# Altium schematic symbol library GenericPinHeader.SchLib: 39 symbols
Pins are listed as number, name and electrical type; pins without a type are passive.

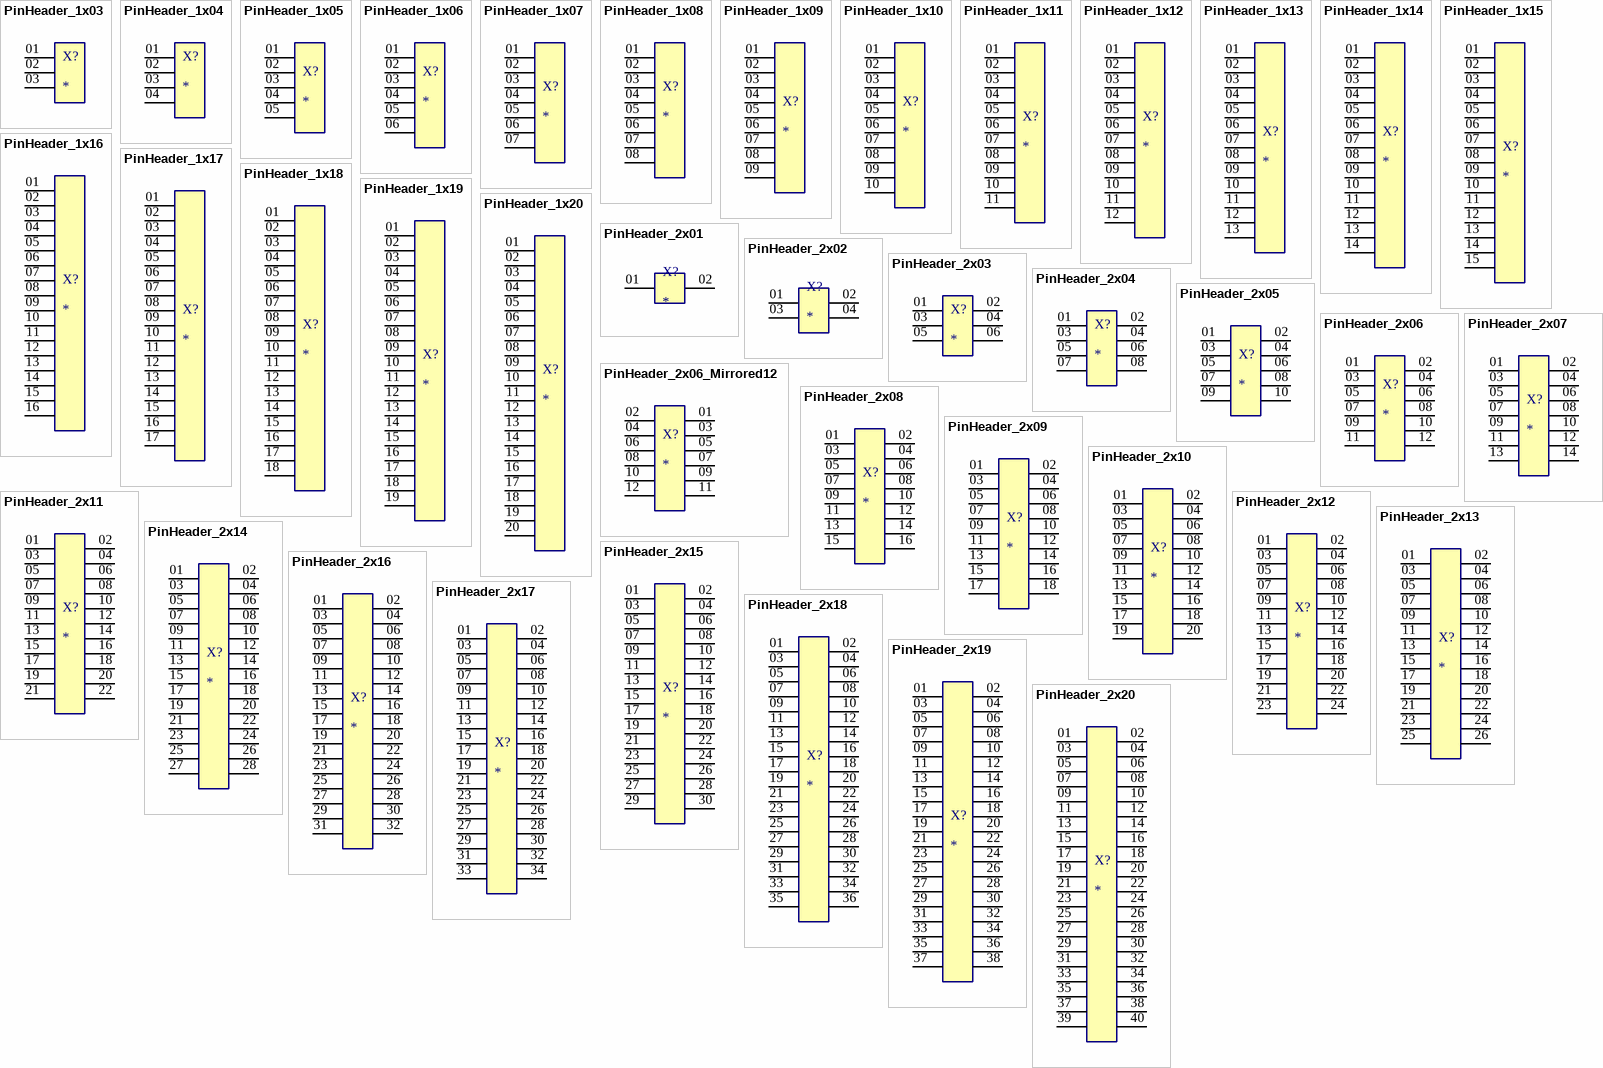
[diagram p0: symbols PinHeader_1x03 to PinHeader_2x20]

## PinHeader_1x03
designator X?
Generic Single-row Pin Header
pins: 01, 02, 03

## PinHeader_1x04
designator X?
Generic Single-row Pin Header
pins: 01, 02, 03, 04

## PinHeader_1x05
designator X?
Generic Single-row Pin Header
pins: 01, 02, 03, 04, 05

## PinHeader_1x06
designator X?
Generic Single-row Pin Header
pins: 01, 02, 03, 04, 05, 06

## PinHeader_1x07
designator X?
Generic Single-row Pin Header
pins: 01, 02, 03, 04, 05, 06, 07

## PinHeader_1x08
designator X?
Generic Single-row Pin Header
pins: 01, 02, 03, 04, 05, 06, 07, 08

## PinHeader_1x09
designator X?
Generic Single-row Pin Header
pins: 01, 02, 03, 04, 05, 06, 07, 08, 09

## PinHeader_1x10
designator X?
Generic Single-row Pin Header
pins: 01, 02, 03, 04, 05, 06, 07, 08, 09, 10

## PinHeader_1x11
designator X?
Generic Single-row Pin Header
pins: 01, 02, 03, 04, 05, 06, 07, 08, 09, 10, 11

## PinHeader_1x12
designator X?
Generic Single-row Pin Header
pins: 01, 02, 03, 04, 05, 06, 07, 08, 09, 10, 11, 12

## PinHeader_1x13
designator X?
Generic Single-row Pin Header
pins: 01, 02, 03, 04, 05, 06, 07, 08, 09, 10, 11, 12, 13

## PinHeader_1x14
designator X?
Generic Single-row Pin Header
pins: 01, 02, 03, 04, 05, 06, 07, 08, 09, 10, 11, 12, 13, 14

## PinHeader_1x15
designator X?
Generic Single-row Pin Header
pins: 01, 02, 03, 04, 05, 06, 07, 08, 09, 10, 11, 12, 13, 14, 15

## PinHeader_1x16
designator X?
Generic Single-row Pin Header
pins: 01, 02, 03, 04, 05, 06, 07, 08, 09, 10, 11, 12, 13, 14, 15, 16

## PinHeader_1x17
designator X?
Generic Single-row Pin Header
pins: 01, 02, 03, 04, 05, 06, 07, 08, 09, 10, 11, 12, 13, 14, 15, 16, 17

## PinHeader_1x18
designator X?
Generic Single-row Pin Header
pins: 01, 02, 03, 04, 05, 06, 07, 08, 09, 10, 11, 12, 13, 14, 15, 16, 17, 18

## PinHeader_1x19
designator X?
Generic Single-row Pin Header
pins: 01, 02, 03, 04, 05, 06, 07, 08, 09, 10, 11, 12, 13, 14, 15, 16, 17, 18, 19

## PinHeader_1x20
designator X?
Generic Single-row Pin Header
pins: 01, 02, 03, 04, 05, 06, 07, 08, 09, 10, 11, 12, 13, 14, 15, 16, 17, 18, 19, 20

## PinHeader_2x01
designator X?
Generic Double-row Pin Header
pins: 01, 02

## PinHeader_2x02
designator X?
Generic Double-row Pin Header
pins: 01, 02, 03, 04

## PinHeader_2x03
designator X?
Generic Double-row Pin Header
pins: 01, 02, 03, 04, 05, 06

## PinHeader_2x04
designator X?
Generic Double-row Pin Header
pins: 01, 02, 03, 04, 05, 06, 07, 08

## PinHeader_2x05
designator X?
Generic Double-row Pin Header
pins: 01, 02, 03, 04, 05, 06, 07, 08, 09, 10

## PinHeader_2x06
designator X?
Generic Double-row Pin Header
pins: 01, 02, 03, 04, 05, 06, 07, 08, 09, 10, 11, 12

## PinHeader_2x06_Mirrored12
designator X?
Generic Double-row Pin Header
pins: 01, 02, 03, 04, 05, 06, 07, 08, 09, 10, 11, 12

## PinHeader_2x07
designator X?
Generic Double-row Pin Header
pins: 01, 02, 03, 04, 05, 06, 07, 08, 09, 10, 11, 12, 13, 14

## PinHeader_2x08
designator X?
Generic Double-row Pin Header
pins: 01, 02, 03, 04, 05, 06, 07, 08, 09, 10, 11, 12, 13, 14, 15, 16

## PinHeader_2x09
designator X?
Generic Double-row Pin Header
pins: 01, 02, 03, 04, 05, 06, 07, 08, 09, 10, 11, 12, 13, 14, 15, 16, 17, 18

## PinHeader_2x10
designator X?
Generic Double-row Pin Header
pins: 01, 02, 03, 04, 05, 06, 07, 08, 09, 10, 11, 12, 13, 14, 15, 16, 17, 18, 19, 20

## PinHeader_2x11
designator X?
Generic Double-row Pin Header
pins: 01, 02, 03, 04, 05, 06, 07, 08, 09, 10, 11, 12, 13, 14, 15, 16, 17, 18, 19, 20, 21, 22

## PinHeader_2x12
designator X?
Generic Double-row Pin Header
pins: 01, 02, 03, 04, 05, 06, 07, 08, 09, 10, 11, 12, 13, 14, 15, 16, 17, 18, 19, 20, 21, 22, 23, 24

## PinHeader_2x13
designator X?
Generic Double-row Pin Header
pins: 01, 02, 03, 04, 05, 06, 07, 08, 09, 10, 11, 12, 13, 14, 15, 16, 17, 18, 19, 20, 21, 22, 23, 24, 25, 26

## PinHeader_2x14
designator X?
Generic Double-row Pin Header
pins: 01, 02, 03, 04, 05, 06, 07, 08, 09, 10, 11, 12, 13, 14, 15, 16, 17, 18, 19, 20, 21, 22, 23, 24, 25, 26, 27, 28

## PinHeader_2x15
designator X?
Generic Double-row Pin Header
pins: 01, 02, 03, 04, 05, 06, 07, 08, 09, 10, 11, 12, 13, 14, 15, 16, 17, 18, 19, 20, 21, 22, 23, 24, 25, 26, 27, 28, 29, 30

## PinHeader_2x16
designator X?
Generic Double-row Pin Header
pins: 01, 02, 03, 04, 05, 06, 07, 08, 09, 10, 11, 12, 13, 14, 15, 16, 17, 18, 19, 20, 21, 22, 23, 24, 25, 26, 27, 28, 29, 30, 31, 32

## PinHeader_2x17
designator X?
Generic Double-row Pin Header
pins: 01, 02, 03, 04, 05, 06, 07, 08, 09, 10, 11, 12, 13, 14, 15, 16, 17, 18, 19, 20, 21, 22, 23, 24, 25, 26, 27, 28, 29, 30, 31, 32, 33, 34

## PinHeader_2x18
designator X?
Generic Double-row Pin Header
pins: 01, 02, 03, 04, 05, 06, 07, 08, 09, 10, 11, 12, 13, 14, 15, 16, 17, 18, 19, 20, 21, 22, 23, 24, 25, 26, 27, 28, 29, 30, 31, 32, 33, 34, 35, 36

## PinHeader_2x19
designator X?
Generic Double-row Pin Header
pins: 01, 02, 03, 04, 05, 06, 07, 08, 09, 10, 11, 12, 13, 14, 15, 16, 17, 18, 19, 20, 21, 22, 23, 24, 25, 26, 27, 28, 29, 30, 31, 32, 33, 34, 35, 36, 37, 38

## PinHeader_2x20
designator X?
Generic Double-row Pin Header
pins: 01, 02, 03, 04, 05, 06, 07, 08, 09, 10, 11, 12, 13, 14, 15, 16, 17, 18, 19, 20, 21, 22, 23, 24, 25, 26, 27, 28, 29, 30, 31, 32, 33, 34, 35, 36, 37, 38, 39, 40